# EAGLE library part LT1813 (library lineartechnology)
Dual AOP 3mA, 100MHz, 750V/us
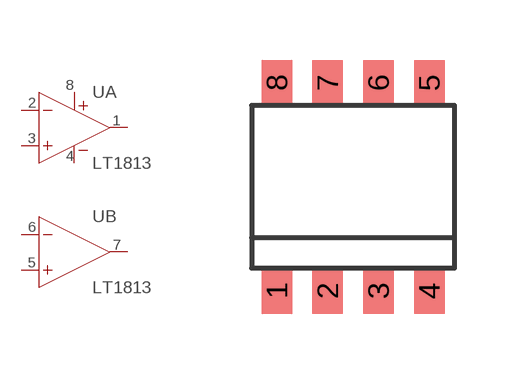
[diagram p0: symbol with the pads of S8; footprint S8]

Designator prefix U; gates A=AOP B=AOPWITHOUTPOWER

## LT1813  [S8]
1  A:OUT  out
2  A:IN-  in
3  A:IN+  in
4  A:V-  pwr
5  B:IN+  in
6  B:IN-  in
7  B:OUT  out
8  A:V+  pwr

## Footprint S8 (pad centres in mm)
smd 0.762 x 1.143: 1 -1.905,-2.603; 2 -0.635,-2.603; 3 0.635,-2.603; 4 1.905,-2.603; 5 1.905,2.603; 6 0.635,2.603; 7 -0.635,2.603; 8 -1.905,2.603